# Altium footprint library Vishay Draloric Ceramic Disc Capacitor.PcbLib: 220 footprints (part 14 of 14)
Each footprint in its own frame and in the unit in brackets; x right, y up, seen from the top. Pads: shape width x height; smd on the part's side, far side on the other; paste and mask are expansions set on the pad; w line width, h text height; cw(c..) or ccw(c..) is an arc to the next point about the centre after c.
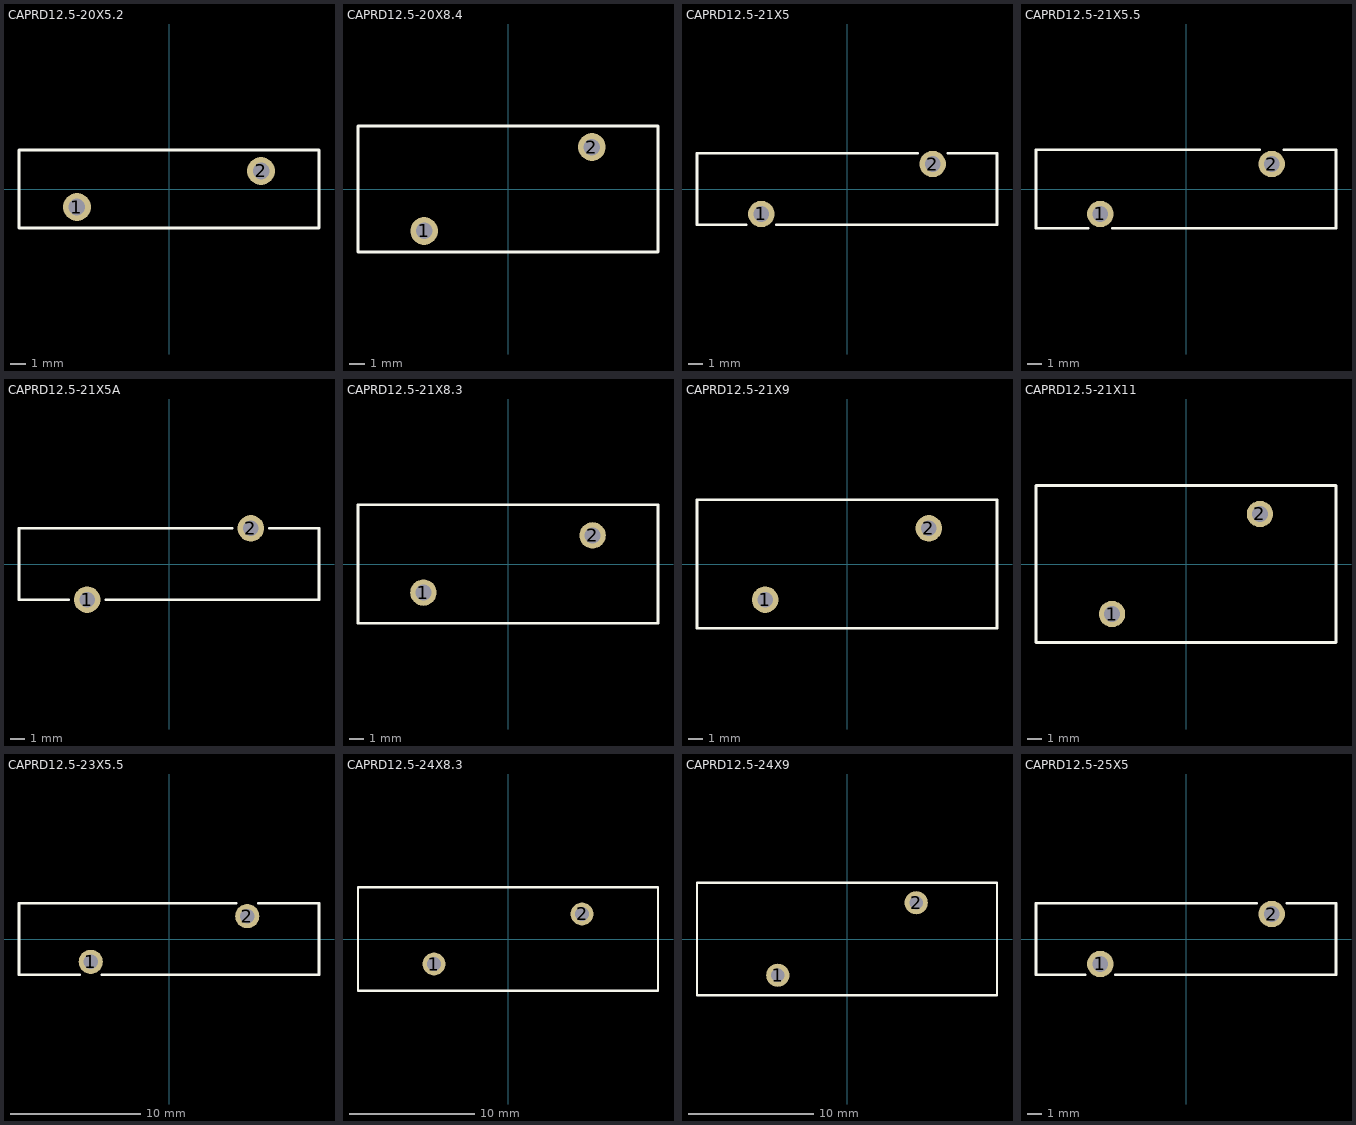
[diagram p13: the footprints below, top view; thin cyan lines are the x and y axes]

## CAPRD12.5-20X5.2 [mm] "Capacitor, Ceramic, Thru-Hole, Disc; Body 20 x 5.2 mm (LxW max) Pin Spacing 12.5 mm (typ)"
height 23
pads (2):
  round 1.85 hole 1.1: 1(-6.134,-1.2) 2(6.134,1.2)
Top Overlay:
  lines w0.2: -10,-2.6 -10,2.6 10,2.6 10,-2.6 -10,-2.6

## CAPRD12.5-20X8.4 [mm] "Capacitor, Ceramic, Thru-Hole, Disc; Body 20 x 8.4 mm (LxW max) Pin Spacing 12.5 mm (typ)"
height 23
pads (2):
  round 1.85 hole 1.1: 1(-5.588,-2.8) 2(5.588,2.8)
Top Overlay:
  lines w0.2: -10,-4.2 -10,4.2 10,4.2 10,-4.2 -10,-4.2

## CAPRD12.5-21X5 [mm] "Capacitor, Ceramic, Thru-Hole, Disc; Body 21 x 5 mm (LxW max) Pin Spacing 12.5 mm (typ)"
height 24
pads (2):
  round 1.85 hole 1.1: 1(-6,-1.75) 2(6,1.75)
Top Overlay:
  lines w0.2: -7.07,-2.5 -10.5,-2.5 -10.5,2.5 4.93,2.5 ; -4.93,-2.5 10.5,-2.5 10.5,2.5 7.07,2.5

## CAPRD12.5-21X5.5 [mm] "Capacitor, Ceramic, Thru-Hole, Disc; Body 21 x 5.5 mm (LxW max) Pin Spacing 12.5 mm (typ)"
height 24
pads (2):
  round 1.85 hole 1.1: 1(-6,-1.75) 2(6,1.75)
Top Overlay:
  lines w0.2: -6.84,-2.75 -10.5,-2.75 -10.5,2.75 5.16,2.75 ; -5.16,-2.75 10.5,-2.75 10.5,2.75 6.84,2.75

## CAPRD12.5-21X5A [mm] "Capacitor, Ceramic, Thru-Hole, Disc; Body 21 x 5 mm (LxW max) Pin Spacing 12.5 mm (typ)"
height 26
pads (2):
  round 1.85 hole 1.1: 1(-5.728,-2.5) 2(5.728,2.5)
Top Overlay:
  lines w0.2: -7.029,-2.5 -10.5,-2.5 -10.5,2.5 4.428,2.5 ; -4.428,-2.5 10.5,-2.5 10.5,2.5 7.029,2.5

## CAPRD12.5-21X8.3 [mm] "Capacitor, Ceramic, Thru-Hole, Disc; Body 21 x 8.3 mm (LxW max) Pin Spacing 12.5 mm (typ)"
height 24
pads (2):
  round 1.85 hole 1.1: 1(-5.921,-2) 2(5.921,2)
Top Overlay:
  lines w0.2: -10.5,-4.15 10.5,-4.15 10.5,4.15 -10.5,4.15 -10.5,-4.15

## CAPRD12.5-21X9 [mm] "Capacitor, Ceramic, Thru-Hole, Disc; Body 21 x 9 mm (LxW max) Pin Spacing 12.5 mm (typ)"
height 26
pads (2):
  round 1.85 hole 1.1: 1(-5.728,-2.5) 2(5.728,2.5)
Top Overlay:
  lines w0.2: -10.5,-4.5 10.5,-4.5 10.5,4.5 -10.5,4.5 -10.5,-4.5

## CAPRD12.5-21X11 [mm] "Capacitor, Ceramic, Thru-Hole, Disc; Body 21 x 11 mm (LxW max) Pin Spacing 12.5 mm (typ)"
height 26
pads (2):
  round 1.85 hole 1.1: 1(-5.178,-3.5) 2(5.178,3.5)
Top Overlay:
  lines w0.2: -10.5,-5.5 10.5,-5.5 10.5,5.5 -10.5,5.5 -10.5,-5.5

## CAPRD12.5-23X5.5 [mm] "Capacitor, Ceramic, Thru-Hole, Disc; Body 23 x 5.5 mm (LxW max) Pin Spacing 12.5 mm (typ)"
height 26
pads (2):
  round 1.85 hole 1.1: 1(-6,-1.75) 2(6,1.75)
Top Overlay:
  lines w0.2: -6.84,-2.75 -11.5,-2.75 -11.5,2.75 5.16,2.75 ; -5.16,-2.75 11.5,-2.75 11.5,2.75 6.84,2.75

## CAPRD12.5-24X8.3 [mm] "Capacitor, Ceramic, Thru-Hole, Disc; Body 24 x 8.3 mm (LxW max) Pin Spacing 12.5 mm (typ)"
height 27
pads (2):
  round 1.85 hole 1.1: 1(-5.921,-2) 2(5.921,2)
Top Overlay:
  lines w0.2: -12,-4.15 12,-4.15 12,4.15 -12,4.15 -12,-4.15

## CAPRD12.5-24X9 [mm] "Capacitor, Ceramic, Thru-Hole, Disc; Body 24 x 9 mm (LxW max) Pin Spacing 12.5 mm (typ)"
height 27
pads (2):
  round 1.85 hole 1.1: 1(-5.536,-2.9) 2(5.536,2.9)
Top Overlay:
  lines w0.2: -12,-4.5 -12,4.5 12,4.5 12,-4.5 -12,-4.5

## CAPRD12.5-25X5 [mm] "Capacitor, Ceramic, Thru-Hole, Disc; Body 25 x 5 mm (LxW max) Pin Spacing 12.5 mm (typ)"
height 28
pads (2):
  round 1.85 hole 1.1: 1(-6,-1.75) 2(6,1.75)
Top Overlay:
  lines w0.2: -7.07,-2.5 -10.5,-2.5 -10.5,2.5 4.93,2.5 ; -4.93,-2.5 10.5,-2.5 10.5,2.5 7.07,2.5